# Altium footprint library VSON.PcbLib: 1 footprints
Each footprint in its own frame and in the unit in brackets; x right, y up, seen from the top. Pads: shape width x height; smd on the part's side, far side on the other; paste and mask are expansions set on the pad; w line width, h text height; cw(c..) or ccw(c..) is an arc to the next point about the centre after c.
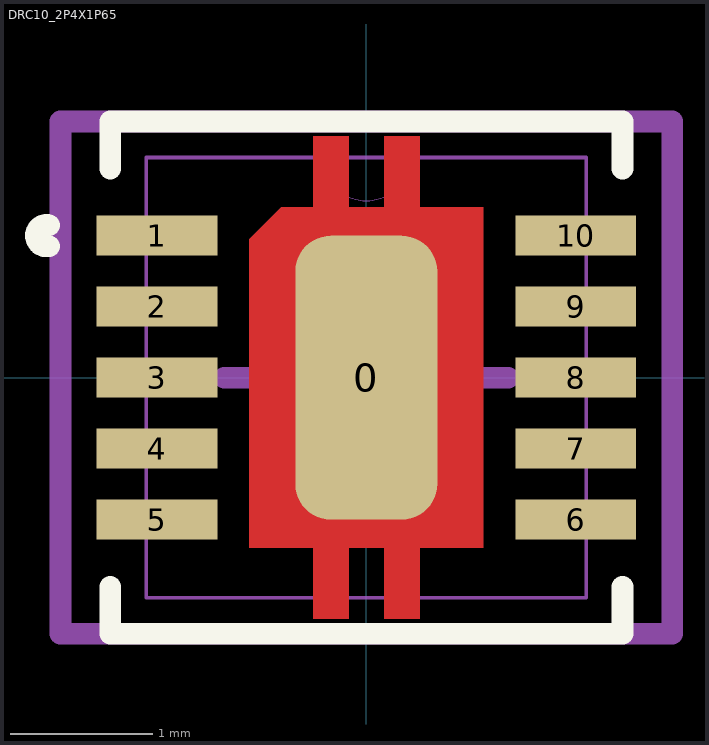
[diagram p0: the footprint, top view; thin cyan lines are the x and y axes]

## DRC10_2P4X1P65 [mm]
pads (11):
  rrect50% 1x2 smd: 0(0,0)
  rect 0.85x0.28 smd: 1(-1.475,1) 2(-1.475,0.5) 3(-1.475,0) 4(-1.475,-0.5) 5(-1.475,-1) 6(1.475,-1) 7(1.475,-0.5) 8(1.475,0) 9(1.475,0.5) 10(1.475,1)
Top Layer:
  region: -0.375,-1.7 -0.375,-1.2 -0.825,-1.2 -0.825,0.975 -0.6,1.2 -0.375,1.2 -0.375,1.7 -0.125,1.7 -0.125,1.2 0.125,1.2 0.125,1.7 0.375,1.7 0.375,1.2 0.825,1.2 0.825,-1.2 0.375,-1.2 0.375,-1.7 0.125,-1.7 0.125,-1.2 -0.125,-1.2 -0.125,-1.7
Top Overlay:
  lines w0.152: -2.233,0.926 cw(c-2.252,1) -2.233,1.074 ; -1.804,-1.473 -1.804,-1.804 1.804,-1.804 1.804,-1.473 ; -1.804,1.473 -1.804,1.804 1.804,1.804 1.804,1.473
Top Paste:
  region: 1.865,1.105 1.085,1.105 1.085,0.895 1.865,0.895
  region: 1.865,0.605 1.085,0.605 1.085,0.395 1.865,0.395
  region: 1.865,0.105 1.085,0.105 1.085,-0.105 1.865,-0.105
  region: 1.865,-0.395 1.085,-0.395 1.085,-0.605 1.865,-0.605
  region: 1.865,-0.895 1.085,-0.895 1.085,-1.105 1.865,-1.105
  region: -1.085,-0.895 -1.865,-0.895 -1.865,-1.105 -1.085,-1.105
  region: -1.085,-0.395 -1.865,-0.395 -1.865,-0.605 -1.085,-0.605
  region: -1.085,0.105 -1.865,0.105 -1.865,-0.105 -1.085,-0.105
  region: -1.085,0.605 -1.865,0.605 -1.865,0.395 -1.085,0.395
  region: -1.085,1.105 -1.865,1.105 -1.865,0.895 -1.085,0.895
  region: -0.375,-1.7 -0.375,-1.2 -0.825,-1.2 -0.825,0.975 -0.6,1.2 -0.375,1.2 -0.375,1.7 -0.125,1.7 -0.125,1.2 0.125,1.2 0.125,1.7 0.375,1.7 0.375,1.2 0.825,1.2 0.825,-1.2 0.375,-1.2 0.375,-1.7 0.125,-1.7 0.125,-1.2 -0.125,-1.2 -0.125,-1.7
Top Solder:
  region: 1.935,1.175 1.015,1.175 1.015,0.825 1.935,0.825
  region: 1.935,0.675 1.015,0.675 1.015,0.325 1.935,0.325
  region: 1.935,0.175 1.015,0.175 1.015,-0.175 1.935,-0.175
  region: 1.935,-0.325 1.015,-0.325 1.015,-0.675 1.935,-0.675
  region: 1.935,-0.825 1.015,-0.825 1.015,-1.175 1.935,-1.175
  region: -1.015,-0.825 -1.935,-0.825 -1.935,-1.175 -1.015,-1.175
  region: -1.015,-0.325 -1.935,-0.325 -1.935,-0.675 -1.015,-0.675
  region: -1.015,0.175 -1.935,0.175 -1.935,-0.175 -1.015,-0.175
  region: -1.015,0.675 -1.935,0.675 -1.935,0.325 -1.015,0.325
  region: -1.015,1.175 -1.935,1.175 -1.935,0.825 -1.015,0.825
  region: -0.375,-1.7 -0.375,-1.2 -0.825,-1.2 -0.825,0.975 -0.6,1.2 -0.375,1.2 -0.375,1.7 -0.125,1.7 -0.125,1.2 0.125,1.2 0.125,1.7 0.375,1.7 0.375,1.2 0.825,1.2 0.825,-1.2 0.375,-1.2 0.375,-1.7 0.125,-1.7 0.125,-1.2 -0.125,-1.2 -0.125,-1.7
Mechanical 13:
  circle w0: c-2.252,1 r0.076
  lines w0: -0.305,1.55 ccw(c0,1.55) 0.305,1.55
  lines w0.025: -1.55,-1.55 -1.55,1.55 1.55,1.55 1.55,-1.55 -1.55,-1.55
Mechanical 15:
  circle w0.152: c0,0 r0.5
  lines w0.152: -1,0 0,0 ; 0,-1 0,0 ; 0,1 0,0 ; 1,0 0,0 ; -2.154,-1.804 2.154,-1.804 2.154,1.804 -2.154,1.804 -2.154,-1.804
3D body "DRC10_2P4X1P65.step": height 1, standoff 0, extent -1.499,-1.55 1.499,1.55